# Altium integrated library SparkFun-Switches.IntLib: 54 symbols
Pins are listed as number, name and electrical type; pins without a type are passive.

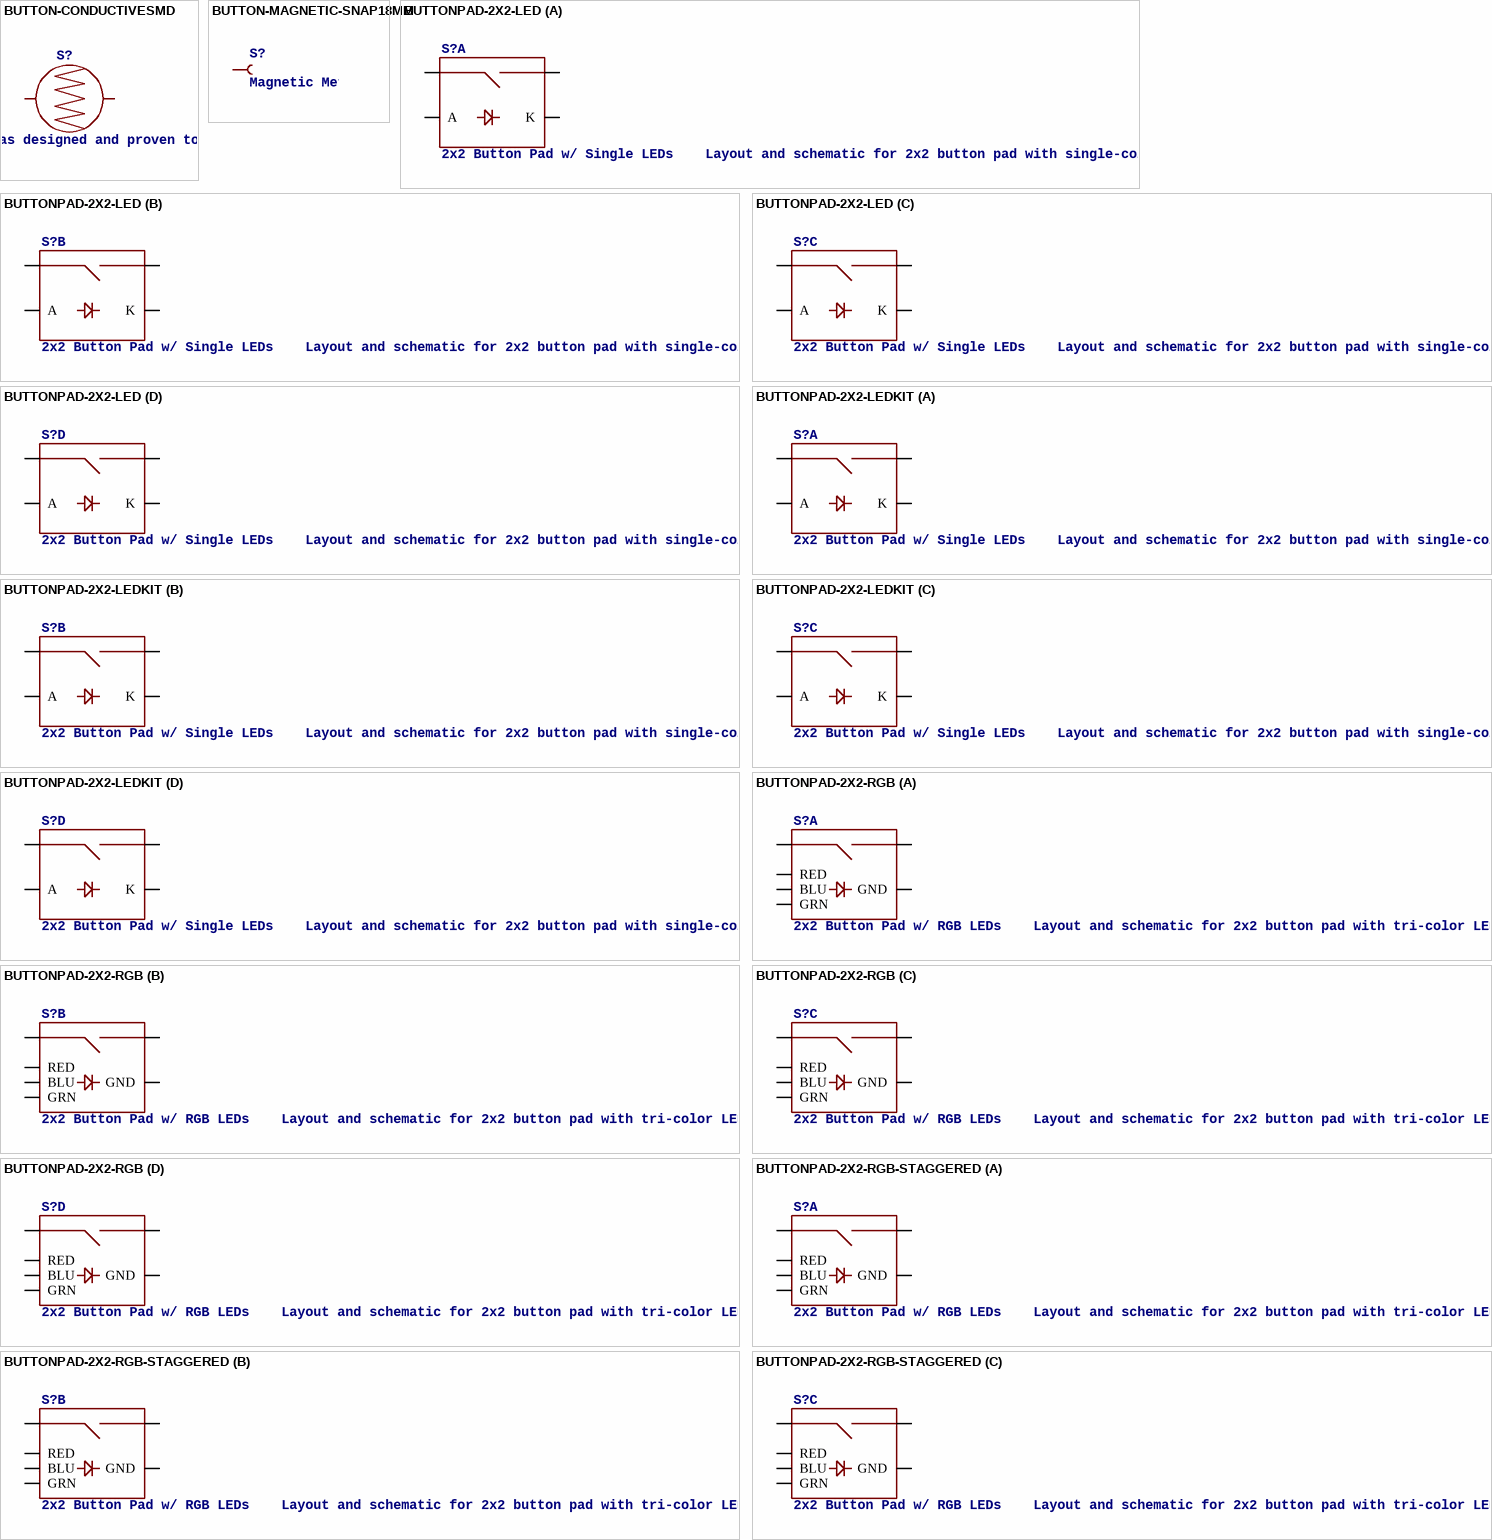
[diagram p0: symbols BUTTON-CONDUCTIVESMD to BUTTONPAD-2X2-RGB-STAGGERED]

## BUTTON-CONDUCTIVESMD
designator S?, comment Conductive Button    Used with rubber key pads on the Nordic Key FOB. This one was designed and proven to work with the PolyCase Key FOB enclosures. SparkFun Products  Nordic Fob (WRL-08602)
footprint BUTTON-CONDUCTIVE
pins: 1, 2

## BUTTON-MAGNETIC-SNAP18MM
designator S?, comment Magnetic Metal Snaps    18mm diameter snaps that couple together very strongly (must be pried apart), rotate freely on the axis, and are electrically conductive. Overall connection resistance is less than 200 miliOhm. Snaps will couple when closer than 10mm. SparkFun Products  Magnetic Snap 18mm (WRL-08682)
SF_SKU: DEV-08682
footprint BUTTON-18MM
pins: 1

## BUTTONPAD-2X2-LED
designator S?, comment 2x2 Button Pad w/ Single LEDs    Layout and schematic for 2x2 button pad with single-color LEDs under each button. For use with the Button Pad 2x2 - LED Compatible and Button Pad 2x2 Top Bezel.   Any single-color 5mm LED should be compatible. SparkFun Products  SparkFun Simon Says - Through-Hole Soldering Kit (KIT-10547)  Button Pad 2x2 - Breakout PCB (COM-09277)
PROD_ID: COMP-08481; SF_SKU: COM-07836
footprint BUTTONPAD-2X2-SINGLE-LED
part A pins: A1 A, K1 K, SIG1, SIG2
part B pins: A2 A, K2 K, SIG3 SIG1, SIG4 SIG2
part C pins: A3 A, K3 K, SIG5 SIG1, SIG6 SIG2
part D pins: A4 A, K4 K, SIG7 SIG1, SIG8 SIG2

## BUTTONPAD-2X2-LEDKIT
designator S?, comment 2x2 Button Pad w/ Single LEDs    Layout and schematic for 2x2 button pad with single-color LEDs under each button. For use with the Button Pad 2x2 - LED Compatible and Button Pad 2x2 Top Bezel.   Any single-color 5mm LED should be compatible. SparkFun Products  SparkFun Simon Says - Through-Hole Soldering Kit (KIT-10547)  Button Pad 2x2 - Breakout PCB (COM-09277)
PROD_ID: COMP-08481; SF_SKU: COM-07836
footprint BUTTONPAD-2X2-SINGLE-LED-KIT
part A pins: A1 A, K1 K, SIG1, SIG2
part B pins: A2 A, K2 K, SIG3 SIG1, SIG4 SIG2
part C pins: A3 A, K3 K, SIG5 SIG1, SIG6 SIG2
part D pins: A4 A, K4 K, SIG7 SIG1, SIG8 SIG2

## BUTTONPAD-2X2-RGB
designator S?, comment 2x2 Button Pad w/ RGB LEDs    Layout and schematic for 2x2 button pad with tri-color LEDs under each button. For use with the Button Pad 2x2 - LED Compatible and Button Pad 2x2 Top Bezel.   Any RGB 5mm LED should be compatible. SparkFun Products  SparkFun Simon Says - Through-Hole Soldering Kit (KIT-10547)  Button Pad 2x2 - Breakout PCB (COM-09277)
PROD_ID: COMP-08481; SF_SKU: COM-07836
footprint BUTTONPAD-2X2
part A pins: BLU1 BLU, GND1 GND, GRN1 GRN, RED1 RED, SIG1, SIG2
part B pins: BLU2 BLU, GND2 GND, GRN2 GRN, RED2 RED, SIG3 SIG1, SIG4 SIG2
part C pins: BLU3 BLU, GND3 GND, GRN3 GRN, RED3 RED, SIG5 SIG1, SIG6 SIG2
part D pins: BLU4 BLU, GND4 GND, GRN4 GRN, RED4 RED, SIG7 SIG1, SIG8 SIG2

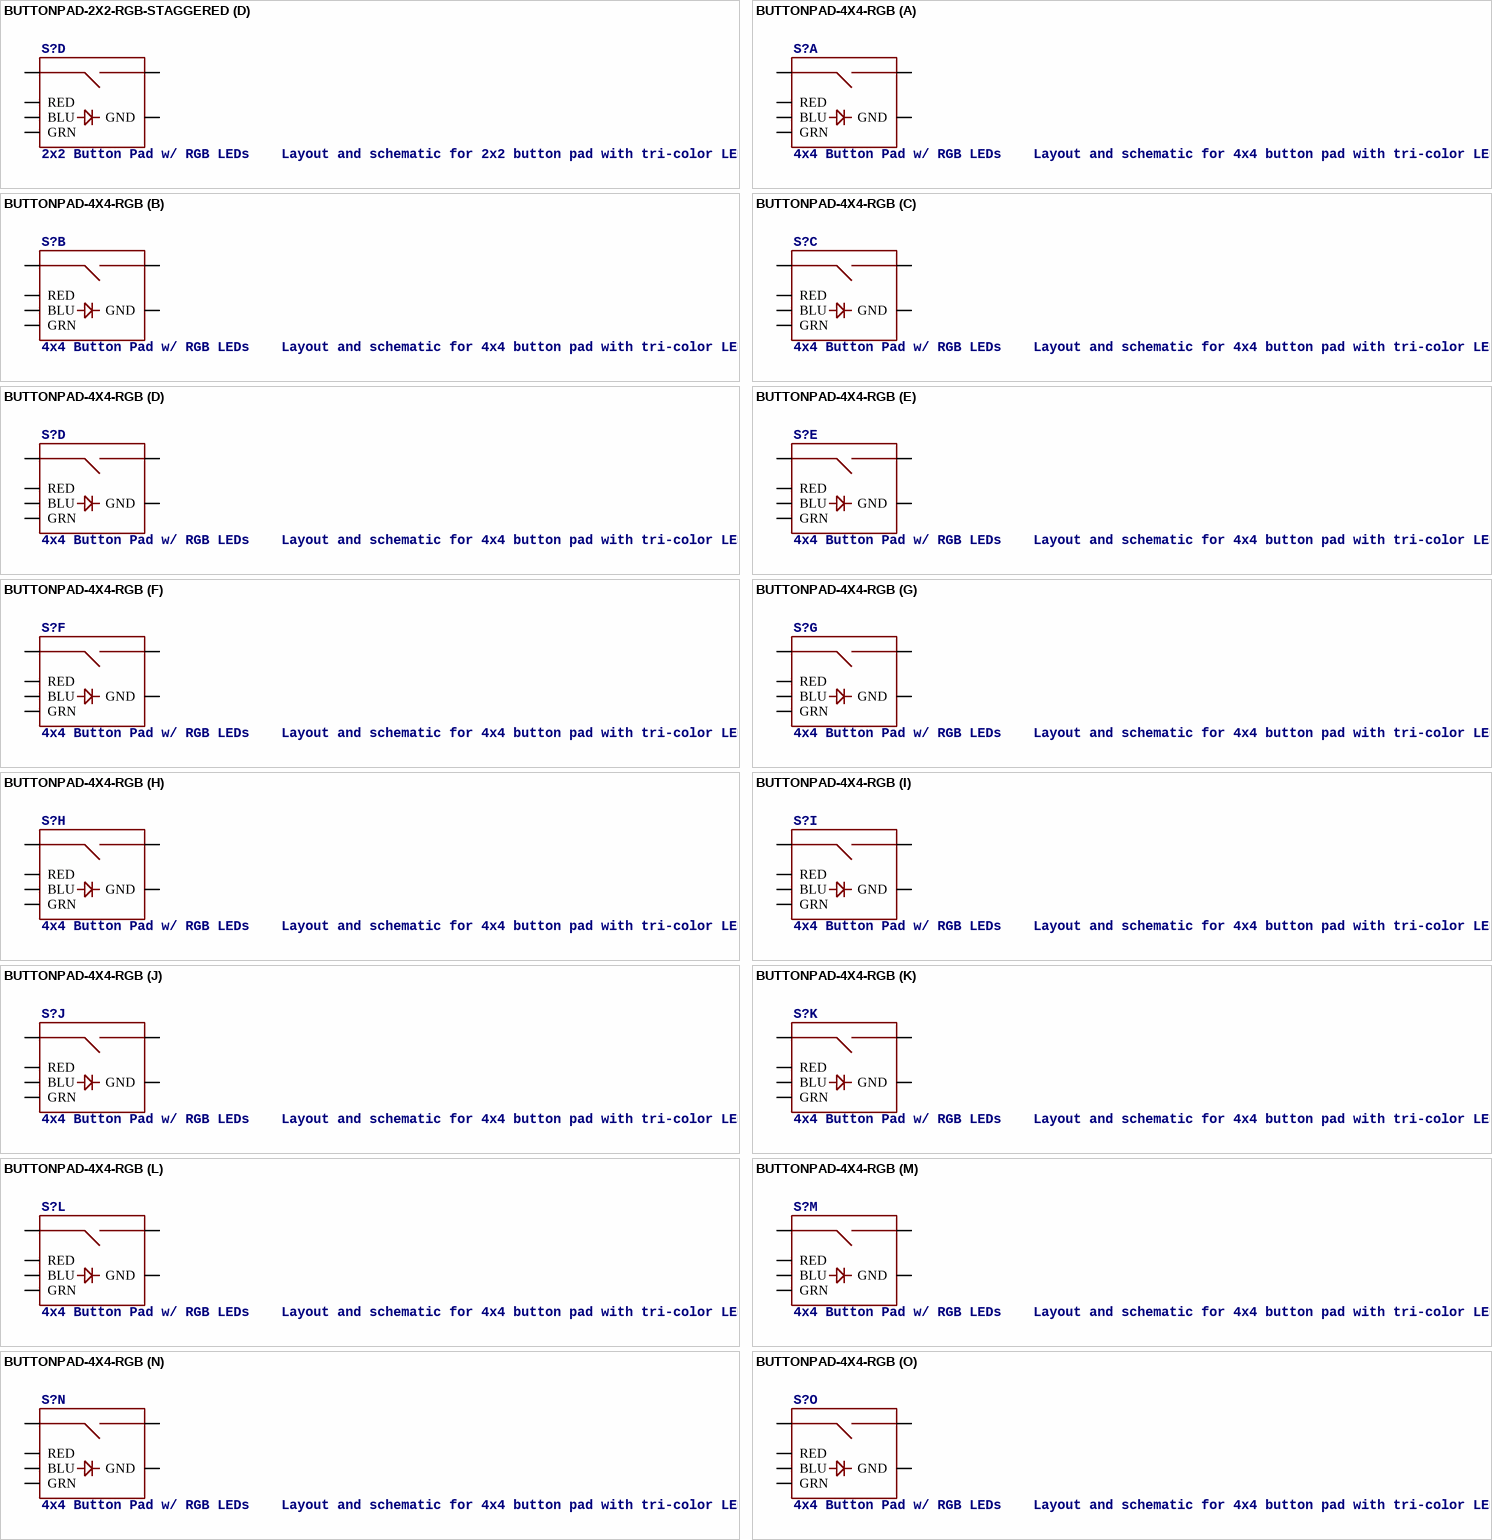
[diagram p1: symbols BUTTONPAD-2X2-RGB-STAGGERED to BUTTONPAD-4X4-RGB]

## BUTTONPAD-2X2-RGB-STAGGERED
designator S?, comment 2x2 Button Pad w/ RGB LEDs    Layout and schematic for 2x2 button pad with tri-color LEDs under each button. For use with the Button Pad 2x2 - LED Compatible and Button Pad 2x2 Top Bezel.   Any RGB 5mm LED should be compatible. SparkFun Products  SparkFun Simon Says - Through-Hole Soldering Kit (KIT-10547)  Button Pad 2x2 - Breakout PCB (COM-09277)
PROD_ID: COMP-08481; SF_SKU: COM-07836
footprint BUTTONPAD-2X2-STAGGERED
part A pins: BLU1 BLU, GND1 GND, GRN1 GRN, RED1 RED, SIG1, SIG2
part B pins: BLU2 BLU, GND2 GND, GRN2 GRN, RED2 RED, SIG3 SIG1, SIG4 SIG2
part C pins: BLU3 BLU, GND3 GND, GRN3 GRN, RED3 RED, SIG5 SIG1, SIG6 SIG2
part D pins: BLU4 BLU, GND4 GND, GRN4 GRN, RED4 RED, SIG7 SIG1, SIG8 SIG2

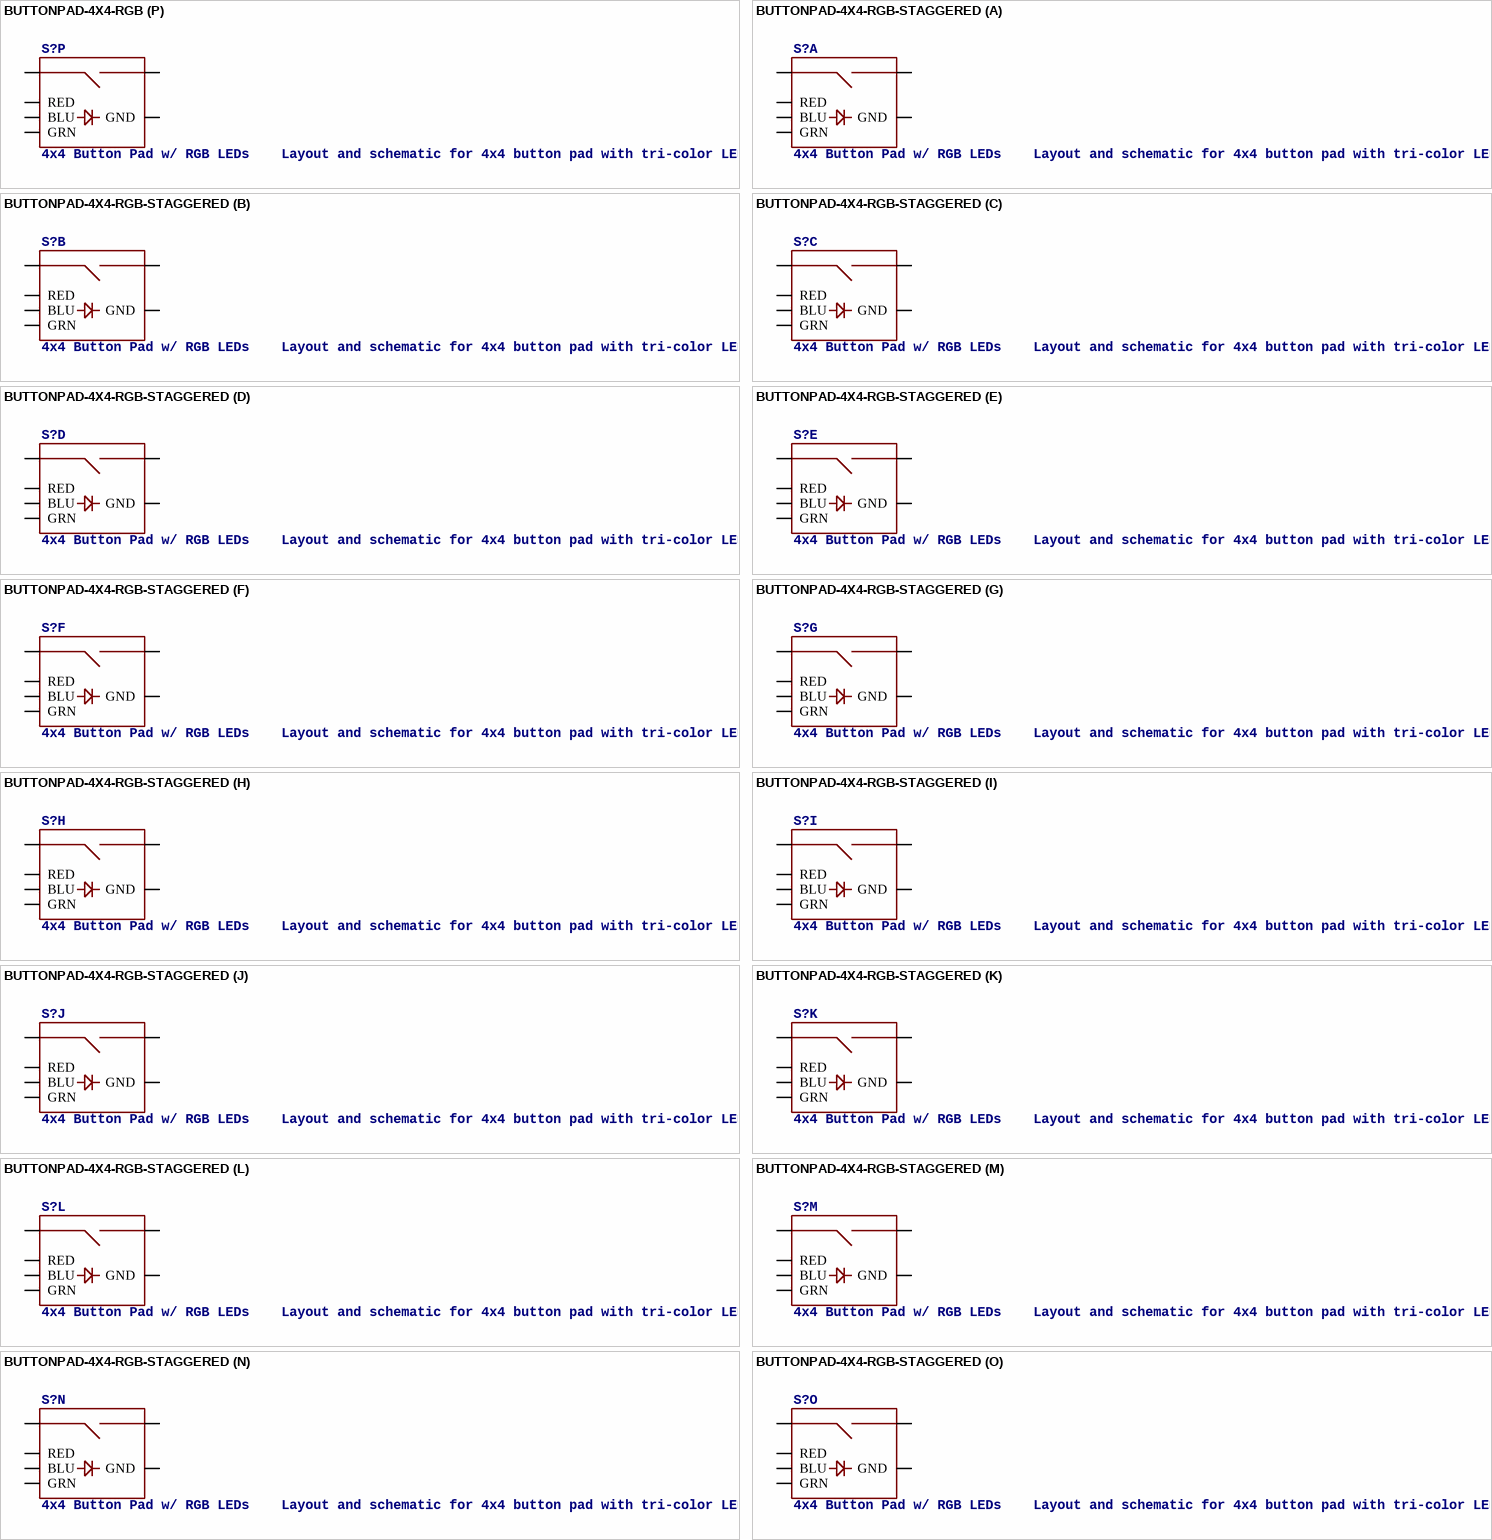
[diagram p2: symbols BUTTONPAD-4X4-RGB to BUTTONPAD-4X4-RGB-STAGGERED]

## BUTTONPAD-4X4-RGB
designator S?, comment 4x4 Button Pad w/ RGB LEDs    Layout and schematic for 4x4 button pad with tri-color LEDs under each button. For use with the 4x Button Pad 2x2 - LED Compatible and 4x Button Pad 2x2 Top Bezel.   Any RGB 5mm LED should be compatible. SparkFun Products  SparkFun Simon Says - Through-Hole Soldering Kit (KIT-10547)  Button Pad 2x2 - Breakout PCB (COM-09277)
PROD_ID: COMP-08481; SF_SKU: COM-07836
footprint BUTTONPAD-4X4
part A pins: BLU0 BLU, GND0 GND, GRN0 GRN, RED0 RED, SIG0 SIG1, SIG1 SIG2
part B pins: BLU1 BLU, GND1 GND, GRN1 GRN, RED1 RED, SIG2 SIG1, SIG3 SIG2
part C pins: BLU2 BLU, GND2 GND, GRN2 GRN, RED2 RED, SIG4 SIG1, SIG5 SIG2
part D pins: BLU3 BLU, GND3 GND, GRN3 GRN, RED3 RED, SIG6 SIG1, SIG7 SIG2
part E pins: BLU4 BLU, GND4 GND, GRN4 GRN, RED4 RED, SIG8 SIG1, SIG9 SIG2
part F pins: BLU5 BLU, GND5 GND, GRN6 GRN, RED5 RED, SIG10 SIG1, SIG11 SIG2
part G pins: BLU6 BLU, GND6 GND, GRN5 GRN, RED6 RED, SIG12 SIG1, SIG13 SIG2
part H pins: BLU7 BLU, GND7 GND, GRN7 GRN, RED7 RED, SIG14 SIG1, SIG15 SIG2
part I pins: BLU8 BLU, GND8 GND, GRN8 GRN, RED8 RED, SIG16 SIG1, SIG17 SIG2
part J pins: BLU9 BLU, GND9 GND, GRN9 GRN, RED9 RED, SIG18 SIG1, SIG19 SIG2
part K pins: BLU10 BLU, GND10 GND, GRN10 GRN, RED10 RED, SIG20 SIG1, SIG21 SIG2
part L pins: BLU11 BLU, GND11 GND, GRN11 GRN, RED11 RED, SIG22 SIG1, SIG23 SIG2
part M pins: BLU12 BLU, GND12 GND, GRN12 GRN, RED12 RED, SIG24 SIG1, SIG25 SIG2
part N pins: BLU13 BLU, GND13 GND, GRN13 GRN, RED13 RED, SIG26 SIG1, SIG27 SIG2
part O pins: BLU14 BLU, GND14 GND, GRN14 GRN, RED14 RED, SIG28 SIG1, SIG29 SIG2
part P pins: BLU15 BLU, GND15 GND, GRN15 GRN, RED15 RED, SIG30 SIG1, SIG31 SIG2

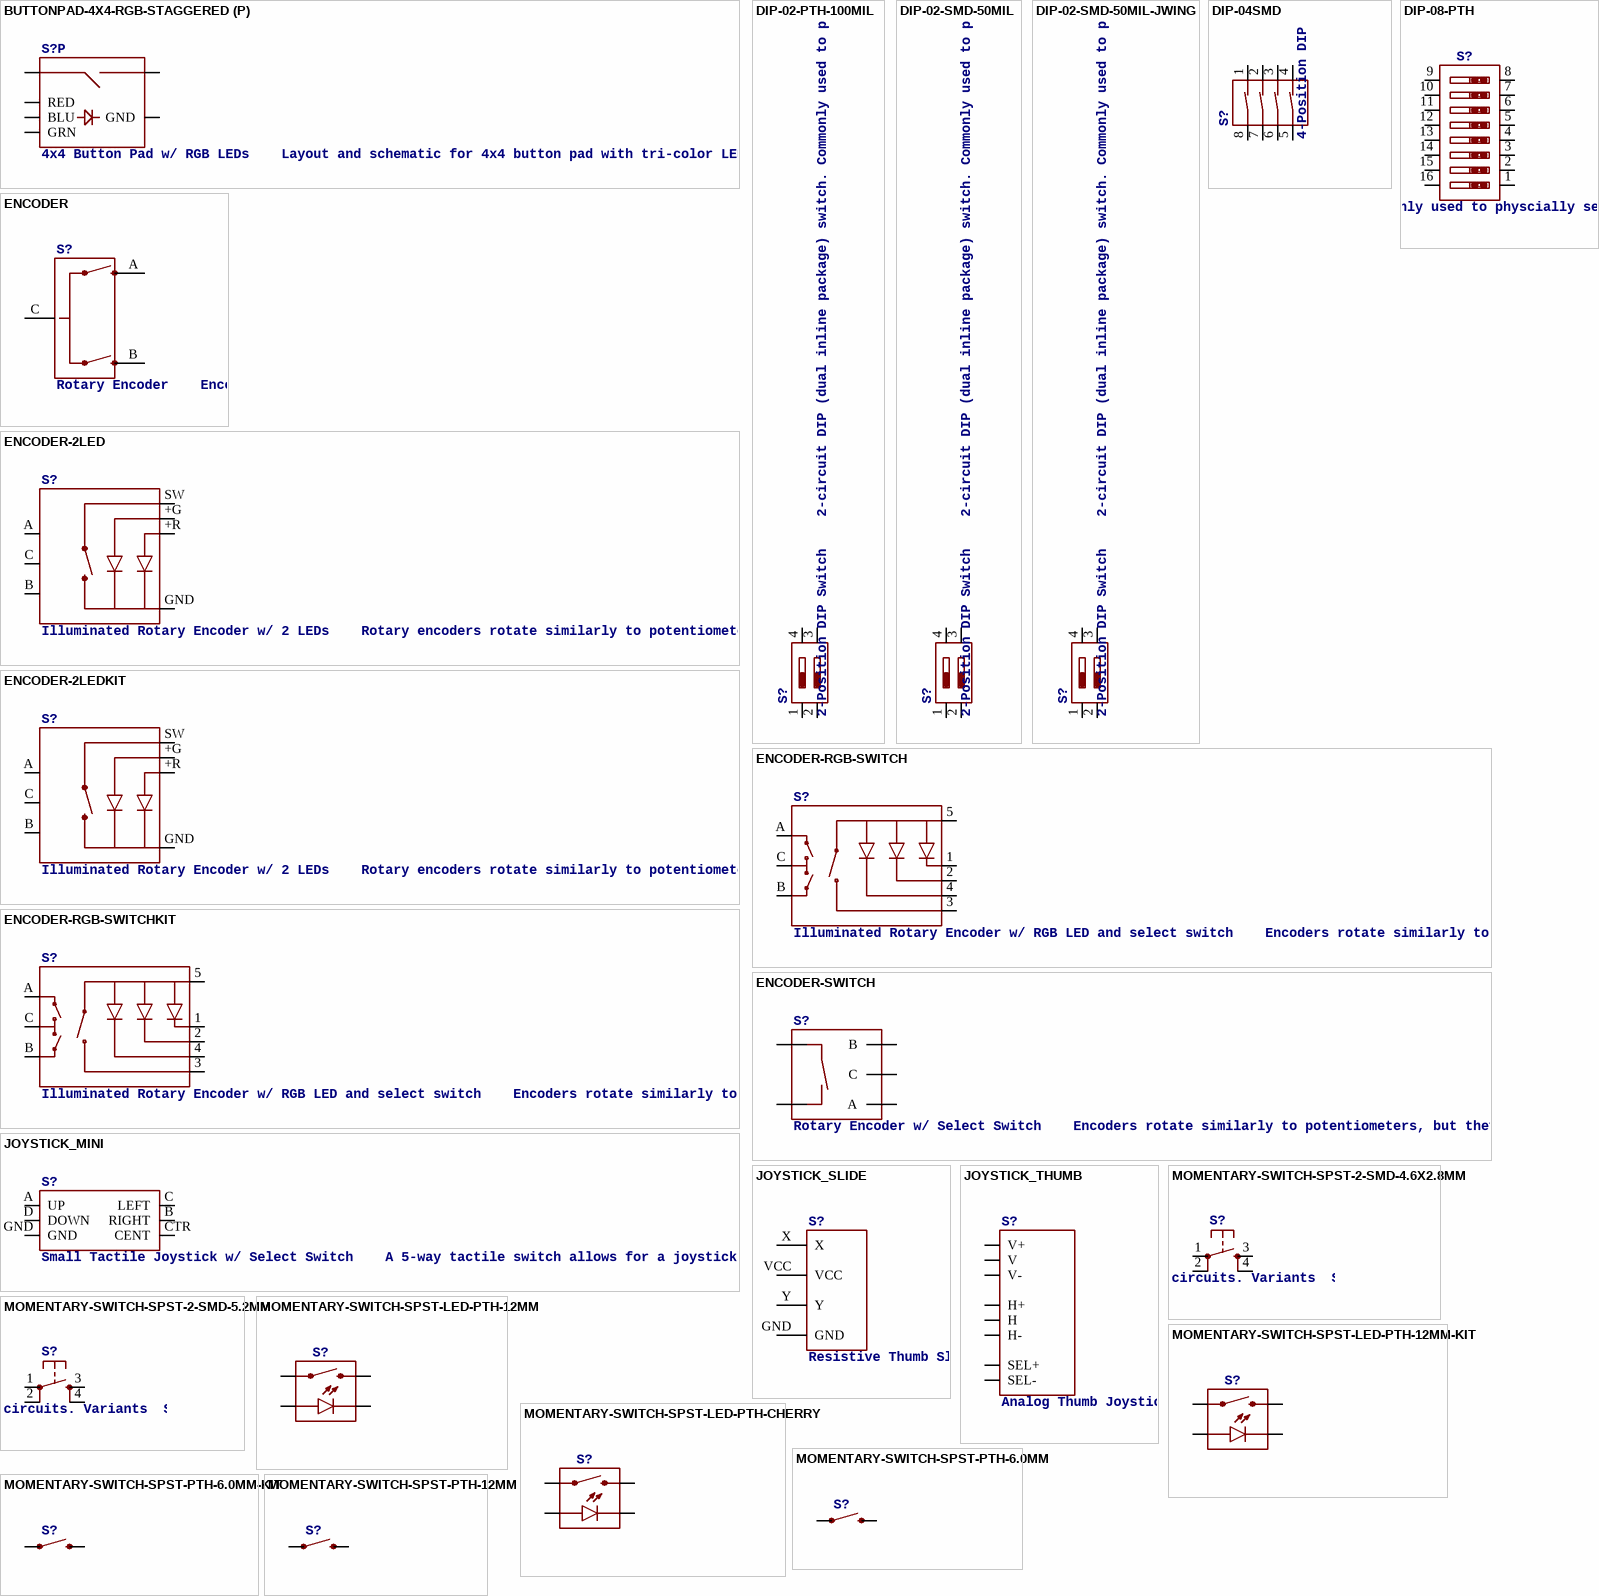
[diagram p3: symbols BUTTONPAD-4X4-RGB-STAGGERED to MOMENTARY-SWITCH-SPST-PTH-12MM]

## BUTTONPAD-4X4-RGB-STAGGERED
designator S?, comment 4x4 Button Pad w/ RGB LEDs    Layout and schematic for 4x4 button pad with tri-color LEDs under each button. For use with the 4x Button Pad 2x2 - LED Compatible and 4x Button Pad 2x2 Top Bezel.   Any RGB 5mm LED should be compatible. SparkFun Products  SparkFun Simon Says - Through-Hole Soldering Kit (KIT-10547)  Button Pad 2x2 - Breakout PCB (COM-09277)
PROD_ID: COMP-08481; SF_SKU: COM-07836
footprint BUTTONPAD-4X4-STAGGERED
part A pins: BLU0 BLU, GND0 GND, GRN0 GRN, RED0 RED, SIG0 SIG1, SIG1 SIG2
part B pins: BLU1 BLU, GND1 GND, GRN1 GRN, RED1 RED, SIG2 SIG1, SIG3 SIG2
part C pins: BLU2 BLU, GND2 GND, GRN2 GRN, RED2 RED, SIG4 SIG1, SIG5 SIG2
part D pins: BLU3 BLU, GND3 GND, GRN3 GRN, RED3 RED, SIG6 SIG1, SIG7 SIG2
part E pins: BLU4 BLU, GND4 GND, GRN4 GRN, RED4 RED, SIG8 SIG1, SIG9 SIG2
part F pins: BLU5 BLU, GND5 GND, GRN6 GRN, RED5 RED, SIG10 SIG1, SIG11 SIG2
part G pins: BLU6 BLU, GND6 GND, GRN5 GRN, RED6 RED, SIG12 SIG1, SIG13 SIG2
part H pins: BLU7 BLU, GND7 GND, GRN7 GRN, RED7 RED, SIG14 SIG1, SIG15 SIG2
part I pins: BLU8 BLU, GND8 GND, GRN8 GRN, RED8 RED, SIG16 SIG1, SIG17 SIG2
part J pins: BLU9 BLU, GND9 GND, GRN9 GRN, RED9 RED, SIG18 SIG1, SIG19 SIG2
part K pins: BLU10 BLU, GND10 GND, GRN10 GRN, RED10 RED, SIG20 SIG1, SIG21 SIG2
part L pins: BLU11 BLU, GND11 GND, GRN11 GRN, RED11 RED, SIG22 SIG1, SIG23 SIG2
part M pins: BLU12 BLU, GND12 GND, GRN12 GRN, RED12 RED, SIG24 SIG1, SIG25 SIG2
part N pins: BLU13 BLU, GND13 GND, GRN13 GRN, RED13 RED, SIG26 SIG1, SIG27 SIG2
part O pins: BLU14 BLU, GND14 GND, GRN14 GRN, RED14 RED, SIG28 SIG1, SIG29 SIG2
part P pins: BLU15 BLU, GND15 GND, GRN15 GRN, RED15 RED, SIG30 SIG1, SIG31 SIG2

## DIP-02-PTH-100MIL
designator S?, comment 2-Position DIP Switch    2-circuit DIP (dual inline package) switch. Commonly used to physcially set a circuit's behavior. Variants  PTH-100MIL - Through-hole, 0.1"-Pitch  Used on SparkFun Stepoko (ROB-13899)     SMD-50MIL-JWING - SMD (J-Wing Pads), 0.05"-Pitch  Prototype Part     SMD-50MIL - SMD, 0.05"-Pitch  Used on SparkFun Battery Babysitter (PRT-13777)
PROD_ID: SWCH-12532
footprint DIPSWITCH-02-209-2LPST
pins: 1 P$1, 2 P$2, 3 P$3, 4 P$4

## DIP-02-SMD-50MIL
designator S?, comment 2-Position DIP Switch    2-circuit DIP (dual inline package) switch. Commonly used to physcially set a circuit's behavior. Variants  PTH-100MIL - Through-hole, 0.1"-Pitch  Used on SparkFun Stepoko (ROB-13899)     SMD-50MIL-JWING - SMD (J-Wing Pads), 0.05"-Pitch  Prototype Part     SMD-50MIL - SMD, 0.05"-Pitch  Used on SparkFun Battery Babysitter (PRT-13777)
PROD_ID: SWCH-13215
footprint DIPSWITCH-02-50MIL
pins: 1 P$1, 2 P$2, 3 P$3, 4 P$4

## DIP-02-SMD-50MIL-JWING
designator S?, comment 2-Position DIP Switch    2-circuit DIP (dual inline package) switch. Commonly used to physcially set a circuit's behavior. Variants  PTH-100MIL - Through-hole, 0.1"-Pitch  Used on SparkFun Stepoko (ROB-13899)     SMD-50MIL-JWING - SMD (J-Wing Pads), 0.05"-Pitch  Prototype Part     SMD-50MIL - SMD, 0.05"-Pitch  Used on SparkFun Battery Babysitter (PRT-13777)
PROD_ID: SWCH-12372
footprint DIPSWITCH-02-CHS-02A
pins: 1 P$1, 2 P$2, 3 P$3, 4 P$4

## DIP-04SMD
designator S?, comment 4-Position DIP Switch    4-circuit DIP (dual inline package) switch. Commonly used to physcially set a circuit's behavior. SparkFun Products  Prototype Part
PROD_ID: SWCH-12418
footprint DIPSWITCH-04-SMD
pins: 1 1A, 2 2A, 3 3A, 4 4A, 5 4B, 6 3B, 7 2B, 8 1B

## DIP-08-PTH
designator S?, comment 8-Position DIP Switch    8-circuit DIP (dual inline package) switch. Commonly used to physcially set a circuit's behavior. SparkFun Products  DIP Switch - 8 Position (COM-08034)
PROD_ID: SWCH-12197; SF_SKU: COM-08034
footprint DIPSWITCH-08
pins: 1, 2, 3, 4, 5, 6, 7, 8, 9, 10, 11, 12, 13, 14, 15, 16

## ENCODER
designator S?, comment Rotary Encoder    Encoders rotate similarly to potentiometers, but they’re different from potentiometers in that an encoder has full rotation without limits. They output gray code so that you can tell how much and in which direction the encoder has been turned. SparkFun Products  Used on the https://www.sparkfun.com/products/11043 (COM-11043)
PROD_ID: RES-11299
footprint ENCODER-16MM-QUAD
pins: A, B, C

## ENCODER-2LED
designator S?, comment Illuminated Rotary Encoder w/ 2 LEDs    Rotary encoders rotate similarly to potentiometers, but they’re different from potentiometers in that an encoder has full rotation without limits. They output gray code so that you can tell how much and in which direction the encoder has been turned.   This encoder has a red/green LED built-in, which shines through the encoder shaft. SparkFun Products  Rotary Encoder - Illuminated (Red/Green) (COM-10596)  SparkFun Rotary Encoder Breakout - Illuminated (RG/RGB) (BOB-11722)
PROD_ID: COMP-11113; SF_SKU: COM-10596
footprint ENCODER_LED_2
pins: +G, +R, A, B, C, GND -, SW

## ENCODER-2LEDKIT
designator S?, comment Illuminated Rotary Encoder w/ 2 LEDs    Rotary encoders rotate similarly to potentiometers, but they’re different from potentiometers in that an encoder has full rotation without limits. They output gray code so that you can tell how much and in which direction the encoder has been turned.   This encoder has a red/green LED built-in, which shines through the encoder shaft. SparkFun Products  Rotary Encoder - Illuminated (Red/Green) (COM-10596)  SparkFun Rotary Encoder Breakout - Illuminated (RG/RGB) (BOB-11722)
PROD_ID: COMP-11113; SF_SKU: COM-10596
footprint ENCODER_LED_2_KIT
pins: +G, +R, A, B, C, GND -, SW

## ENCODER-RGB-SWITCH
designator S?, comment Illuminated Rotary Encoder w/ RGB LED and select switch    Encoders rotate similarly to potentiometers, but they’re different from potentiometers in that an encoder has full rotation without limits. They output gray code so that you can tell how much and in which direction the encoder has been turned.   This encoder includes an RGB LED and a push-down select switch.   Part #: Top Up EC12PLRGBSDVBF-D SparkFun Products  Rotary Encoder - Illuminated (RGB) (COM-10982)
PROD_ID: RES-10859; SF_SKU: COM-10982
footprint ENCODER_LED_3
pins: 1 -R, 2 -G, 3 SW, 4 -B, 5 +, A, B, C

## ENCODER-RGB-SWITCHKIT
designator S?, comment Illuminated Rotary Encoder w/ RGB LED and select switch    Encoders rotate similarly to potentiometers, but they’re different from potentiometers in that an encoder has full rotation without limits. They output gray code so that you can tell how much and in which direction the encoder has been turned.   This encoder includes an RGB LED and a push-down select switch.   Part #: Top Up EC12PLRGBSDVBF-D SparkFun Products  Rotary Encoder - Illuminated (RGB) (COM-10982)
PROD_ID: RES-10859; SF_SKU: COM-10982
footprint ENCODER_LED_3_KIT
pins: 1 -R, 2 -G, 3 SW, 4 -B, 5 +, A, B, C

## ENCODER-SWITCH
designator S?, comment Rotary Encoder w/ Select Switch    Encoders rotate similarly to potentiometers, but they’re different from potentiometers in that an encoder has full rotation without limits. They output gray code so that you can tell how much and in which direction the encoder has been turned.   This encoder includes a push-down select switch built into the shaft. SparkFun Products  Rotary Encoder (COM-09117)
SF_SKU: COM-09117
footprint ROTARY_ENC_PLAIN
pins: A, B, C, SW+, SW-

## JOYSTICK_MINI
designator S?, comment Small Tactile Joystick w/ Select Switch    A 5-way tactile switch allows for a joystick-like interface in a very small package.   Part #: 4UCON SF303GJ26 SparkFun Products  5-way Tactile Switch (COM-10063)  Used on SparkFun Block for Intel® Edison - OLED (DEV-13035)  Used on CAN-BUS Shield (DEV-13262)
PROD_ID: SWCH-09905; SF_SKU: COM-10063
footprint JOYSTICK_MINI
pins: A UP, B RIGHT, C LEFT, CTR CENT, D DOWN, GND

## JOYSTICK_SLIDE
designator S?, comment Resistive Thumb Slide Joystick    This is a resistive analog joystick, very similar to those found on the PSP1000. These compact joysticks are different in that they have a very interesting ‘slide’ feeling. SparkFun Products  Thumb Slide Joystick (COM-09426)
SF_SKU: COM-09426
footprint JOYSTICK-PSP1000
pins: GND, VCC, X, Y

## JOYSTICK_THUMB
designator S?, comment Analog Thumb Joystick    This is a joystick very similar to the ‘analog’ joysticks on PS2 (PlayStation 2) controllers. Directional movements are simply two potentiometers - one for each axis. Pots are ~10k each. This joystick also has a select button that is actuated when the joystick is pressed down. SparkFun Products  Thumb Joystick (COM-09032)  SparkFun Thumb Joystick Breakout (BOB-09110)  SparkFun Joystick Shield Kit (DEV-09760)
PROD_ID: COMP-09744; SF_SKU: COM-09032
footprint JOYSTICK
pins: B1A SEL+, B2A SEL-, H1 H+, H2 H, H3 H-, V1 V+, V2 V, V3 V-

## MOMENTARY-SWITCH-SPST-2-SMD-4.6X2.8MM
designator S?, comment Momentary Switch (Pushbutton) - SPST - Two Circuits    Normally-open (NO) SPST momentary switches (buttons, pushbuttons). Schematic symbol includes two switch circuits. Variants  SMD-4.6MMX2.8MM -  4.60mm x 2.80mm Tactile Momentary Button Switch  - Used on SparkFun SAMD21 Mini Breakout  SMD-5.2MM - Mini Pushbutton Switch - SMD - Used on Arduino Pro Mini
PROD_ID: SWCH-13065
footprint TACTILE_SWITCH_SMD_4.6X2.8MM
pins: 1, 2, 3, 4

## MOMENTARY-SWITCH-SPST-2-SMD-5.2MM
designator S?, comment Momentary Switch (Pushbutton) - SPST - Two Circuits    Normally-open (NO) SPST momentary switches (buttons, pushbuttons). Schematic symbol includes two switch circuits. Variants  SMD-4.6MMX2.8MM -  4.60mm x 2.80mm Tactile Momentary Button Switch  - Used on SparkFun SAMD21 Mini Breakout  SMD-5.2MM - Mini Pushbutton Switch - SMD - Used on Arduino Pro Mini
PROD_ID: SWCH-08247; SF_SKU: COM-08720
footprint TACTILE_SWITCH_SMD_5.2MM
pins: 1, 2, 3, 4

## MOMENTARY-SWITCH-SPST-LED-PTH-12MM
designator S?, comment Momentary Switch (Pushbutton) - SPST - w/ LED    Normally-open (NO) SPST momentary switches (buttons, pushbuttons), with a built-in LED. Variants  PTH-CHERRY - Cherry MX Switch    Cherry MX Keyswitches are top-of-the-line mechanical keyboard switches. They’re satisfyingly “clicky”, reliable up to tens-of-millions of key presses, and a standard in gaming and programming keyboards across the globe. This ‘blue’ version Cherry MX Switch is favored by most due to its secondary internal actuator making it less likely to “double-tap.” If you are looking for a noticeably audible and high-quality key switch, this is the perfect option for you! Cherry MX Switch (COM-13834)  Cherry MX Switch Breakout (BOB-13773)     PTH-12MM and PTH-12MM-KIT - 12mm Illuminated LED    KIT variant is for soldering kits. There is no tStop (covering up the top side of the pads with mask). This helps the beginner see which side they should be soldering too. LED Tactile Button Breakout (BOB-10467)  LED Tactile Button - Red (COM-10442)  LED Tactile Button - Blue (COM-10443)  LED Tactile Button - Green (COM-10440)  LED Tactile Button - Orange (COM-10441)  LED Tactile Button - White (COM-10439)
PROD_ID: SWCH-11758; SF_SKU: COM-10442
footprint TACTILE_SWITCH_LED_PTH_12MM
pins: 2, 4 1, A, C

## MOMENTARY-SWITCH-SPST-LED-PTH-12MM-KIT
designator S?, comment Momentary Switch (Pushbutton) - SPST - w/ LED    Normally-open (NO) SPST momentary switches (buttons, pushbuttons), with a built-in LED. Variants  PTH-CHERRY - Cherry MX Switch    Cherry MX Keyswitches are top-of-the-line mechanical keyboard switches. They’re satisfyingly “clicky”, reliable up to tens-of-millions of key presses, and a standard in gaming and programming keyboards across the globe. This ‘blue’ version Cherry MX Switch is favored by most due to its secondary internal actuator making it less likely to “double-tap.” If you are looking for a noticeably audible and high-quality key switch, this is the perfect option for you! Cherry MX Switch (COM-13834)  Cherry MX Switch Breakout (BOB-13773)     PTH-12MM and PTH-12MM-KIT - 12mm Illuminated LED    KIT variant is for soldering kits. There is no tStop (covering up the top side of the pads with mask). This helps the beginner see which side they should be soldering too. LED Tactile Button Breakout (BOB-10467)  LED Tactile Button - Red (COM-10442)  LED Tactile Button - Blue (COM-10443)  LED Tactile Button - Green (COM-10440)  LED Tactile Button - Orange (COM-10441)  LED Tactile Button - White (COM-10439)
PROD_ID: SWCH-11758; SF_SKU: COM-10442
footprint TACTILE_SWITCH_LED_PTH_12MM_KIT
pins: 2, 4 1, A, C

## MOMENTARY-SWITCH-SPST-LED-PTH-CHERRY
designator S?, comment Momentary Switch (Pushbutton) - SPST - w/ LED    Normally-open (NO) SPST momentary switches (buttons, pushbuttons), with a built-in LED. Variants  PTH-CHERRY - Cherry MX Switch    Cherry MX Keyswitches are top-of-the-line mechanical keyboard switches. They’re satisfyingly “clicky”, reliable up to tens-of-millions of key presses, and a standard in gaming and programming keyboards across the globe. This ‘blue’ version Cherry MX Switch is favored by most due to its secondary internal actuator making it less likely to “double-tap.” If you are looking for a noticeably audible and high-quality key switch, this is the perfect option for you! Cherry MX Switch (COM-13834)  Cherry MX Switch Breakout (BOB-13773)     PTH-12MM and PTH-12MM-KIT - 12mm Illuminated LED    KIT variant is for soldering kits. There is no tStop (covering up the top side of the pads with mask). This helps the beginner see which side they should be soldering too. LED Tactile Button Breakout (BOB-10467)  LED Tactile Button - Red (COM-10442)  LED Tactile Button - Blue (COM-10443)  LED Tactile Button - Green (COM-10440)  LED Tactile Button - Orange (COM-10441)  LED Tactile Button - White (COM-10439)
SF_ID: COM-13834
footprint CHERRY-MX-LED
pins: A, K C, S1 1, S2 2

## MOMENTARY-SWITCH-SPST-PTH-6.0MM
designator S?, comment Momentary Switch (Pushbutton) - SPST    Normally-open (NO) SPST momentary switches (buttons, pushbuttons). Variants  PTH-12MM - 12mm square, through-hole  Momentary Pushbutton Switch - 12mm Square (COM-09190)     PTH-6.0MM, PTH-6.0MM-KIT - 6.0mm square, through-hole  Mini Pushbutton Switch (COM-00097)  KIT package intended for soldering kit's - only one side of pads' copper is exposed.     PTH-RIGHT-ANGLE-KIT - Right-angle, through-hole  Right Angle Tactile Button - Used on SparkFun BigTime Watch Kit     SMD-12MM - 12mm square, surface-mount  Tactile Button - SMD (12mm) (COM-12993)  Used on SparkFun PicoBoard     SMD-4.5MM - 4.5mm Square Trackball Switch  Used on SparkFun Blackberry Trackballer Breakout     SMD-4.6MMX2.8MM -  4.60mm x 2.80mm, surface mount  Used on SparkFun SAMD21 Mini Breakout     SMD-5.2MM, SMD-5.2-REDUNDANT - 5.2mm square, surface-mount  Mini Pushbutton Switch - SMD (COM-08720)  Used on Arduino Pro Mini  REDUNDANT package connects both switch circuits together     SMD-6.0X3.5MM - 6.0 x 3.5mm, surface mount  Momentary Reset Switch SMD (COM-08229)     SMD-6.2MM-TALL - 6.2mm square, surface mount  Tactile Button - SMD (6mm)  Used on SparkFun Digital Sandbox     SMD-RIGHT-ANGLE - Right-angle, surface mount  Used on SparkFun Block for Intel® Edison - Arduino
PROD_ID: SWCH-08441; SF_SKU: COM-00097
footprint TACTILE_SWITCH_PTH_6.0MM
pins: 1, 3 2

## MOMENTARY-SWITCH-SPST-PTH-6.0MM-KIT
designator S?, comment Momentary Switch (Pushbutton) - SPST    Normally-open (NO) SPST momentary switches (buttons, pushbuttons). Variants  PTH-12MM - 12mm square, through-hole  Momentary Pushbutton Switch - 12mm Square (COM-09190)     PTH-6.0MM, PTH-6.0MM-KIT - 6.0mm square, through-hole  Mini Pushbutton Switch (COM-00097)  KIT package intended for soldering kit's - only one side of pads' copper is exposed.     PTH-RIGHT-ANGLE-KIT - Right-angle, through-hole  Right Angle Tactile Button - Used on SparkFun BigTime Watch Kit     SMD-12MM - 12mm square, surface-mount  Tactile Button - SMD (12mm) (COM-12993)  Used on SparkFun PicoBoard     SMD-4.5MM - 4.5mm Square Trackball Switch  Used on SparkFun Blackberry Trackballer Breakout     SMD-4.6MMX2.8MM -  4.60mm x 2.80mm, surface mount  Used on SparkFun SAMD21 Mini Breakout     SMD-5.2MM, SMD-5.2-REDUNDANT - 5.2mm square, surface-mount  Mini Pushbutton Switch - SMD (COM-08720)  Used on Arduino Pro Mini  REDUNDANT package connects both switch circuits together     SMD-6.0X3.5MM - 6.0 x 3.5mm, surface mount  Momentary Reset Switch SMD (COM-08229)     SMD-6.2MM-TALL - 6.2mm square, surface mount  Tactile Button - SMD (6mm)  Used on SparkFun Digital Sandbox     SMD-RIGHT-ANGLE - Right-angle, surface mount  Used on SparkFun Block for Intel® Edison - Arduino
PROD_ID: SWCH-08441; SF_SKU: COM-00097
footprint TACTILE_SWITCH_PTH_6.0MM_KIT
pins: 1, 3 2

## MOMENTARY-SWITCH-SPST-PTH-12MM
designator S?, comment Momentary Switch (Pushbutton) - SPST    Normally-open (NO) SPST momentary switches (buttons, pushbuttons). Variants  PTH-12MM - 12mm square, through-hole  Momentary Pushbutton Switch - 12mm Square (COM-09190)     PTH-6.0MM, PTH-6.0MM-KIT - 6.0mm square, through-hole  Mini Pushbutton Switch (COM-00097)  KIT package intended for soldering kit's - only one side of pads' copper is exposed.     PTH-RIGHT-ANGLE-KIT - Right-angle, through-hole  Right Angle Tactile Button - Used on SparkFun BigTime Watch Kit     SMD-12MM - 12mm square, surface-mount  Tactile Button - SMD (12mm) (COM-12993)  Used on SparkFun PicoBoard     SMD-4.5MM - 4.5mm Square Trackball Switch  Used on SparkFun Blackberry Trackballer Breakout     SMD-4.6MMX2.8MM -  4.60mm x 2.80mm, surface mount  Used on SparkFun SAMD21 Mini Breakout     SMD-5.2MM, SMD-5.2-REDUNDANT - 5.2mm square, surface-mount  Mini Pushbutton Switch - SMD (COM-08720)  Used on Arduino Pro Mini  REDUNDANT package connects both switch circuits together     SMD-6.0X3.5MM - 6.0 x 3.5mm, surface mount  Momentary Reset Switch SMD (COM-08229)     SMD-6.2MM-TALL - 6.2mm square, surface mount  Tactile Button - SMD (6mm)  Used on SparkFun Digital Sandbox     SMD-RIGHT-ANGLE - Right-angle, surface mount  Used on SparkFun Block for Intel® Edison - Arduino
PROD_ID: SWCH-09185; SF_SKU: COM-09190
footprint TACTILE_SWITCH_PTH_12MM
pins: 1, 3 2

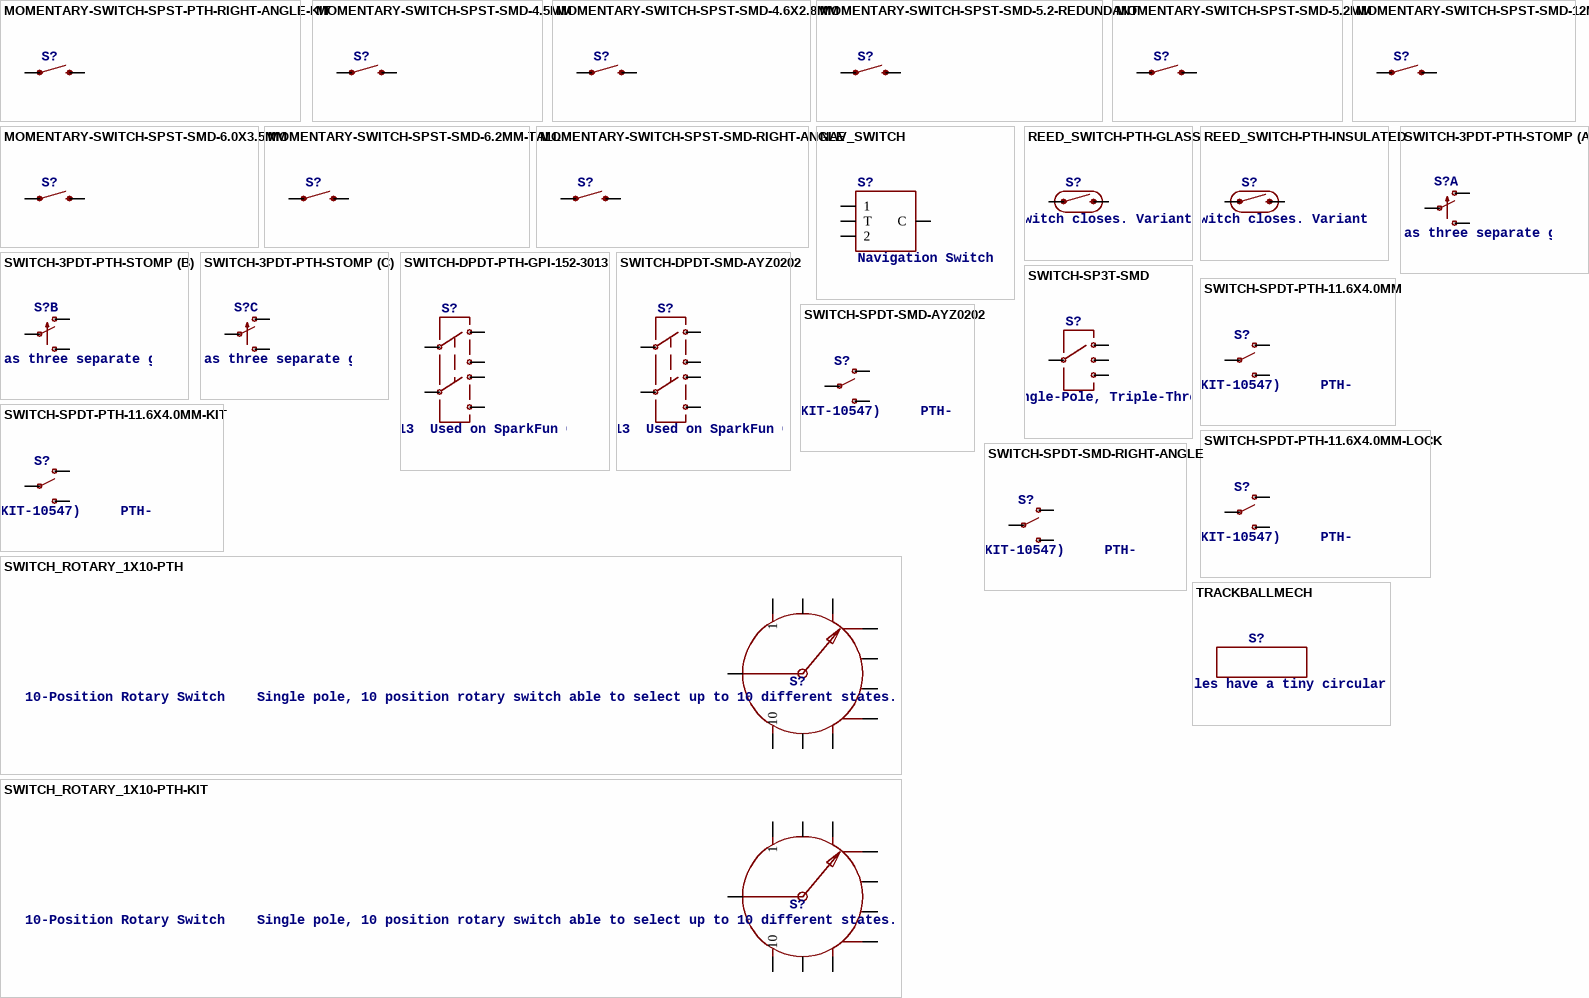
[diagram p4: symbols MOMENTARY-SWITCH-SPST-PTH-RIGHT-ANGLE-KIT to TRACKBALLMECH]

## MOMENTARY-SWITCH-SPST-PTH-RIGHT-ANGLE-KIT
designator S?, comment Momentary Switch (Pushbutton) - SPST    Normally-open (NO) SPST momentary switches (buttons, pushbuttons). Variants  PTH-12MM - 12mm square, through-hole  Momentary Pushbutton Switch - 12mm Square (COM-09190)     PTH-6.0MM, PTH-6.0MM-KIT - 6.0mm square, through-hole  Mini Pushbutton Switch (COM-00097)  KIT package intended for soldering kit's - only one side of pads' copper is exposed.     PTH-RIGHT-ANGLE-KIT - Right-angle, through-hole  Right Angle Tactile Button - Used on SparkFun BigTime Watch Kit     SMD-12MM - 12mm square, surface-mount  Tactile Button - SMD (12mm) (COM-12993)  Used on SparkFun PicoBoard     SMD-4.5MM - 4.5mm Square Trackball Switch  Used on SparkFun Blackberry Trackballer Breakout     SMD-4.6MMX2.8MM -  4.60mm x 2.80mm, surface mount  Used on SparkFun SAMD21 Mini Breakout     SMD-5.2MM, SMD-5.2-REDUNDANT - 5.2mm square, surface-mount  Mini Pushbutton Switch - SMD (COM-08720)  Used on Arduino Pro Mini  REDUNDANT package connects both switch circuits together     SMD-6.0X3.5MM - 6.0 x 3.5mm, surface mount  Momentary Reset Switch SMD (COM-08229)     SMD-6.2MM-TALL - 6.2mm square, surface mount  Tactile Button - SMD (6mm)  Used on SparkFun Digital Sandbox     SMD-RIGHT-ANGLE - Right-angle, surface mount  Used on SparkFun Block for Intel® Edison - Arduino
PROD_ID: CONN-10672; SF_SKU: COM-10791
footprint TACTILE_SWITCH_PTH_RIGHT_ANGLE_KIT
pins: 1, 2

## MOMENTARY-SWITCH-SPST-SMD-4.5MM
designator S?, comment Momentary Switch (Pushbutton) - SPST    Normally-open (NO) SPST momentary switches (buttons, pushbuttons). Variants  PTH-12MM - 12mm square, through-hole  Momentary Pushbutton Switch - 12mm Square (COM-09190)     PTH-6.0MM, PTH-6.0MM-KIT - 6.0mm square, through-hole  Mini Pushbutton Switch (COM-00097)  KIT package intended for soldering kit's - only one side of pads' copper is exposed.     PTH-RIGHT-ANGLE-KIT - Right-angle, through-hole  Right Angle Tactile Button - Used on SparkFun BigTime Watch Kit     SMD-12MM - 12mm square, surface-mount  Tactile Button - SMD (12mm) (COM-12993)  Used on SparkFun PicoBoard     SMD-4.5MM - 4.5mm Square Trackball Switch  Used on SparkFun Blackberry Trackballer Breakout     SMD-4.6MMX2.8MM -  4.60mm x 2.80mm, surface mount  Used on SparkFun SAMD21 Mini Breakout     SMD-5.2MM, SMD-5.2-REDUNDANT - 5.2mm square, surface-mount  Mini Pushbutton Switch - SMD (COM-08720)  Used on Arduino Pro Mini  REDUNDANT package connects both switch circuits together     SMD-6.0X3.5MM - 6.0 x 3.5mm, surface mount  Momentary Reset Switch SMD (COM-08229)     SMD-6.2MM-TALL - 6.2mm square, surface mount  Tactile Button - SMD (6mm)  Used on SparkFun Digital Sandbox     SMD-RIGHT-ANGLE - Right-angle, surface mount  Used on SparkFun Block for Intel® Edison - Arduino
PROD_ID: SWCH-09213
footprint TACTILE_SWITCH_SMD_4.5MM
pins: 1 4 2, 2 3 1

## MOMENTARY-SWITCH-SPST-SMD-4.6X2.8MM
designator S?, comment Momentary Switch (Pushbutton) - SPST    Normally-open (NO) SPST momentary switches (buttons, pushbuttons). Variants  PTH-12MM - 12mm square, through-hole  Momentary Pushbutton Switch - 12mm Square (COM-09190)     PTH-6.0MM, PTH-6.0MM-KIT - 6.0mm square, through-hole  Mini Pushbutton Switch (COM-00097)  KIT package intended for soldering kit's - only one side of pads' copper is exposed.     PTH-RIGHT-ANGLE-KIT - Right-angle, through-hole  Right Angle Tactile Button - Used on SparkFun BigTime Watch Kit     SMD-12MM - 12mm square, surface-mount  Tactile Button - SMD (12mm) (COM-12993)  Used on SparkFun PicoBoard     SMD-4.5MM - 4.5mm Square Trackball Switch  Used on SparkFun Blackberry Trackballer Breakout     SMD-4.6MMX2.8MM -  4.60mm x 2.80mm, surface mount  Used on SparkFun SAMD21 Mini Breakout     SMD-5.2MM, SMD-5.2-REDUNDANT - 5.2mm square, surface-mount  Mini Pushbutton Switch - SMD (COM-08720)  Used on Arduino Pro Mini  REDUNDANT package connects both switch circuits together     SMD-6.0X3.5MM - 6.0 x 3.5mm, surface mount  Momentary Reset Switch SMD (COM-08229)     SMD-6.2MM-TALL - 6.2mm square, surface mount  Tactile Button - SMD (6mm)  Used on SparkFun Digital Sandbox     SMD-RIGHT-ANGLE - Right-angle, surface mount  Used on SparkFun Block for Intel® Edison - Arduino
PROD_ID: SWCH-13065
footprint TACTILE_SWITCH_SMD_4.6X2.8MM
pins: 1 2 1, 3 4 2

## MOMENTARY-SWITCH-SPST-SMD-5.2-REDUNDANT
designator S?, comment Momentary Switch (Pushbutton) - SPST    Normally-open (NO) SPST momentary switches (buttons, pushbuttons). Variants  PTH-12MM - 12mm square, through-hole  Momentary Pushbutton Switch - 12mm Square (COM-09190)     PTH-6.0MM, PTH-6.0MM-KIT - 6.0mm square, through-hole  Mini Pushbutton Switch (COM-00097)  KIT package intended for soldering kit's - only one side of pads' copper is exposed.     PTH-RIGHT-ANGLE-KIT - Right-angle, through-hole  Right Angle Tactile Button - Used on SparkFun BigTime Watch Kit     SMD-12MM - 12mm square, surface-mount  Tactile Button - SMD (12mm) (COM-12993)  Used on SparkFun PicoBoard     SMD-4.5MM - 4.5mm Square Trackball Switch  Used on SparkFun Blackberry Trackballer Breakout     SMD-4.6MMX2.8MM -  4.60mm x 2.80mm, surface mount  Used on SparkFun SAMD21 Mini Breakout     SMD-5.2MM, SMD-5.2-REDUNDANT - 5.2mm square, surface-mount  Mini Pushbutton Switch - SMD (COM-08720)  Used on Arduino Pro Mini  REDUNDANT package connects both switch circuits together     SMD-6.0X3.5MM - 6.0 x 3.5mm, surface mount  Momentary Reset Switch SMD (COM-08229)     SMD-6.2MM-TALL - 6.2mm square, surface mount  Tactile Button - SMD (6mm)  Used on SparkFun Digital Sandbox     SMD-RIGHT-ANGLE - Right-angle, surface mount  Used on SparkFun Block for Intel® Edison - Arduino
PROD_ID: SWCH-08247; SF_SKU: COM-08720
footprint TACTILE_SWITCH_SMD_5.2MM
pins: 1 2 1, 3 4 2

## MOMENTARY-SWITCH-SPST-SMD-5.2MM
designator S?, comment Momentary Switch (Pushbutton) - SPST    Normally-open (NO) SPST momentary switches (buttons, pushbuttons). Variants  PTH-12MM - 12mm square, through-hole  Momentary Pushbutton Switch - 12mm Square (COM-09190)     PTH-6.0MM, PTH-6.0MM-KIT - 6.0mm square, through-hole  Mini Pushbutton Switch (COM-00097)  KIT package intended for soldering kit's - only one side of pads' copper is exposed.     PTH-RIGHT-ANGLE-KIT - Right-angle, through-hole  Right Angle Tactile Button - Used on SparkFun BigTime Watch Kit     SMD-12MM - 12mm square, surface-mount  Tactile Button - SMD (12mm) (COM-12993)  Used on SparkFun PicoBoard     SMD-4.5MM - 4.5mm Square Trackball Switch  Used on SparkFun Blackberry Trackballer Breakout     SMD-4.6MMX2.8MM -  4.60mm x 2.80mm, surface mount  Used on SparkFun SAMD21 Mini Breakout     SMD-5.2MM, SMD-5.2-REDUNDANT - 5.2mm square, surface-mount  Mini Pushbutton Switch - SMD (COM-08720)  Used on Arduino Pro Mini  REDUNDANT package connects both switch circuits together     SMD-6.0X3.5MM - 6.0 x 3.5mm, surface mount  Momentary Reset Switch SMD (COM-08229)     SMD-6.2MM-TALL - 6.2mm square, surface mount  Tactile Button - SMD (6mm)  Used on SparkFun Digital Sandbox     SMD-RIGHT-ANGLE - Right-angle, surface mount  Used on SparkFun Block for Intel® Edison - Arduino
PROD_ID: SWCH-08247; SF_SKU: COM-08720
footprint TACTILE_SWITCH_SMD_5.2MM
pins: 1, 3 2

## MOMENTARY-SWITCH-SPST-SMD-6.0X3.5MM
designator S?, comment Momentary Switch (Pushbutton) - SPST    Normally-open (NO) SPST momentary switches (buttons, pushbuttons). Variants  PTH-12MM - 12mm square, through-hole  Momentary Pushbutton Switch - 12mm Square (COM-09190)     PTH-6.0MM, PTH-6.0MM-KIT - 6.0mm square, through-hole  Mini Pushbutton Switch (COM-00097)  KIT package intended for soldering kit's - only one side of pads' copper is exposed.     PTH-RIGHT-ANGLE-KIT - Right-angle, through-hole  Right Angle Tactile Button - Used on SparkFun BigTime Watch Kit     SMD-12MM - 12mm square, surface-mount  Tactile Button - SMD (12mm) (COM-12993)  Used on SparkFun PicoBoard     SMD-4.5MM - 4.5mm Square Trackball Switch  Used on SparkFun Blackberry Trackballer Breakout     SMD-4.6MMX2.8MM -  4.60mm x 2.80mm, surface mount  Used on SparkFun SAMD21 Mini Breakout     SMD-5.2MM, SMD-5.2-REDUNDANT - 5.2mm square, surface-mount  Mini Pushbutton Switch - SMD (COM-08720)  Used on Arduino Pro Mini  REDUNDANT package connects both switch circuits together     SMD-6.0X3.5MM - 6.0 x 3.5mm, surface mount  Momentary Reset Switch SMD (COM-08229)     SMD-6.2MM-TALL - 6.2mm square, surface mount  Tactile Button - SMD (6mm)  Used on SparkFun Digital Sandbox     SMD-RIGHT-ANGLE - Right-angle, surface mount  Used on SparkFun Block for Intel® Edison - Arduino
PROD_ID: SWCH-00815; SF_SKU: COM-08229
footprint TACTILE_SWITCH_SMD_6.0X3.5MM
pins: 1, 2

## MOMENTARY-SWITCH-SPST-SMD-6.2MM-TALL
designator S?, comment Momentary Switch (Pushbutton) - SPST    Normally-open (NO) SPST momentary switches (buttons, pushbuttons). Variants  PTH-12MM - 12mm square, through-hole  Momentary Pushbutton Switch - 12mm Square (COM-09190)     PTH-6.0MM, PTH-6.0MM-KIT - 6.0mm square, through-hole  Mini Pushbutton Switch (COM-00097)  KIT package intended for soldering kit's - only one side of pads' copper is exposed.     PTH-RIGHT-ANGLE-KIT - Right-angle, through-hole  Right Angle Tactile Button - Used on SparkFun BigTime Watch Kit     SMD-12MM - 12mm square, surface-mount  Tactile Button - SMD (12mm) (COM-12993)  Used on SparkFun PicoBoard     SMD-4.5MM - 4.5mm Square Trackball Switch  Used on SparkFun Blackberry Trackballer Breakout     SMD-4.6MMX2.8MM -  4.60mm x 2.80mm, surface mount  Used on SparkFun SAMD21 Mini Breakout     SMD-5.2MM, SMD-5.2-REDUNDANT - 5.2mm square, surface-mount  Mini Pushbutton Switch - SMD (COM-08720)  Used on Arduino Pro Mini  REDUNDANT package connects both switch circuits together     SMD-6.0X3.5MM - 6.0 x 3.5mm, surface mount  Momentary Reset Switch SMD (COM-08229)     SMD-6.2MM-TALL - 6.2mm square, surface mount  Tactile Button - SMD (6mm)  Used on SparkFun Digital Sandbox     SMD-RIGHT-ANGLE - Right-angle, surface mount  Used on SparkFun Block for Intel® Edison - Arduino
PROD_ID: SWCH-11966; SF_SKU: COM-12992
footprint TACTILE_SWITCH_SMD_6.2MM_TALL
pins: A2 1, B2 2

## MOMENTARY-SWITCH-SPST-SMD-12MM
designator S?, comment Momentary Switch (Pushbutton) - SPST    Normally-open (NO) SPST momentary switches (buttons, pushbuttons). Variants  PTH-12MM - 12mm square, through-hole  Momentary Pushbutton Switch - 12mm Square (COM-09190)     PTH-6.0MM, PTH-6.0MM-KIT - 6.0mm square, through-hole  Mini Pushbutton Switch (COM-00097)  KIT package intended for soldering kit's - only one side of pads' copper is exposed.     PTH-RIGHT-ANGLE-KIT - Right-angle, through-hole  Right Angle Tactile Button - Used on SparkFun BigTime Watch Kit     SMD-12MM - 12mm square, surface-mount  Tactile Button - SMD (12mm) (COM-12993)  Used on SparkFun PicoBoard     SMD-4.5MM - 4.5mm Square Trackball Switch  Used on SparkFun Blackberry Trackballer Breakout     SMD-4.6MMX2.8MM -  4.60mm x 2.80mm, surface mount  Used on SparkFun SAMD21 Mini Breakout     SMD-5.2MM, SMD-5.2-REDUNDANT - 5.2mm square, surface-mount  Mini Pushbutton Switch - SMD (COM-08720)  Used on Arduino Pro Mini  REDUNDANT package connects both switch circuits together     SMD-6.0X3.5MM - 6.0 x 3.5mm, surface mount  Momentary Reset Switch SMD (COM-08229)     SMD-6.2MM-TALL - 6.2mm square, surface mount  Tactile Button - SMD (6mm)  Used on SparkFun Digital Sandbox     SMD-RIGHT-ANGLE - Right-angle, surface mount  Used on SparkFun Block for Intel® Edison - Arduino
PROD_ID: SWCH-11967; SF_SKU: COM-12993
footprint TACTILE_SWITCH_SMD_12MM
pins: 1, 3 2

## MOMENTARY-SWITCH-SPST-SMD-RIGHT-ANGLE
designator S?, comment Momentary Switch (Pushbutton) - SPST    Normally-open (NO) SPST momentary switches (buttons, pushbuttons). Variants  PTH-12MM - 12mm square, through-hole  Momentary Pushbutton Switch - 12mm Square (COM-09190)     PTH-6.0MM, PTH-6.0MM-KIT - 6.0mm square, through-hole  Mini Pushbutton Switch (COM-00097)  KIT package intended for soldering kit's - only one side of pads' copper is exposed.     PTH-RIGHT-ANGLE-KIT - Right-angle, through-hole  Right Angle Tactile Button - Used on SparkFun BigTime Watch Kit     SMD-12MM - 12mm square, surface-mount  Tactile Button - SMD (12mm) (COM-12993)  Used on SparkFun PicoBoard     SMD-4.5MM - 4.5mm Square Trackball Switch  Used on SparkFun Blackberry Trackballer Breakout     SMD-4.6MMX2.8MM -  4.60mm x 2.80mm, surface mount  Used on SparkFun SAMD21 Mini Breakout     SMD-5.2MM, SMD-5.2-REDUNDANT - 5.2mm square, surface-mount  Mini Pushbutton Switch - SMD (COM-08720)  Used on Arduino Pro Mini  REDUNDANT package connects both switch circuits together     SMD-6.0X3.5MM - 6.0 x 3.5mm, surface mount  Momentary Reset Switch SMD (COM-08229)     SMD-6.2MM-TALL - 6.2mm square, surface mount  Tactile Button - SMD (6mm)  Used on SparkFun Digital Sandbox     SMD-RIGHT-ANGLE - Right-angle, surface mount  Used on SparkFun Block for Intel® Edison - Arduino
PROD_ID: COMP-12265
footprint TACTILE_SWITCH_SMD_RIGHT_ANGLE
pins: 1, 2

## NAV_SWITCH
designator S?, comment Navigation Switch    Three way navigation switch. Commonly used as up/down/select on MP3 players. Schematic element and footprint production proven. SparkFun Products  Surface Mount Navigation Switch (COM-08184)  Used on SparkFun MP3 Trigger
PROD_ID: SWCH-08301; SF_SKU: COM-08184
footprint NAV_SWITCH
pins: 1, 2, C (power), T

## REED_SWITCH-PTH-GLASS
designator S?, comment Reed Switch    A reed switch is a magnetically-actuated switch. When the device is exposed to a magnetic field, the two ferrous materials inside the switch pull together and the switch closes. Variant Overview  PTH-GLASS  Reed Switch (COM-08642) - PTH reed switch w/ glass body (6.0 x 0.9 mm)     PTH-INSULATED  Reed Switch - Insulated (COM-10601) - PTH reed switch w/ insulated body (15.1 x 4.2 mm)
PROD_ID: SWCH-09282; SF_SKU: COM-08642
footprint REED_SWITCH_GLASS
pins: P$1 1, P$2 2

## REED_SWITCH-PTH-INSULATED
designator S?, comment Reed Switch    A reed switch is a magnetically-actuated switch. When the device is exposed to a magnetic field, the two ferrous materials inside the switch pull together and the switch closes. Variant Overview  PTH-GLASS  Reed Switch (COM-08642) - PTH reed switch w/ glass body (6.0 x 0.9 mm)     PTH-INSULATED  Reed Switch - Insulated (COM-10601) - PTH reed switch w/ insulated body (15.1 x 4.2 mm)
PROD_ID: SWCH-10467; SF_SKU: COM-10601
footprint REED_SWITCH_PLASTIC
pins: P$1 1, P$2 2

## SWITCH-3PDT-PTH-STOMP
designator S?, comment 3-Pole, Double-Throw (3PDT) Switch    Three-pole, double-throw stomp switch. Drawn as three separate gates for schematic clarity. SparkFun Products  Used in SparkFun Proto Pedal (PRT-13124)
PROD_ID: SWCH-13197
footprint STOMP_SWITCH_3PDT
part A pins: P$1 O, P$2 P, P$3 S
part B pins: P$4 O, P$5 P, P$6 S
part C pins: P$7 O, P$8 P, P$9 S

## SWITCH-DPDT-PTH-GPI-152-3013
designator S?, comment Double-Pole, Double-Throw (DPDT) Switch    Double-pole, double-throw switches. Variant Overview  PTH-GPI-152-3013  Used on SparkFun Geiger Counter     SMD-AY0202  Surface Mount DPDT Switch (COM-00597)  Used on e.g. LilyPad Arduino USB - ATmega32U4 Board
PROD_ID: SWCH-10554
footprint SWITCH_DPDT_PTH_GPI-152-3013
pins: 10 1, 11 4, 20 3, 21 6, C@1 2, C@2 5

## SWITCH-DPDT-SMD-AYZ0202
designator S?, comment Double-Pole, Double-Throw (DPDT) Switch    Double-pole, double-throw switches. Variant Overview  PTH-GPI-152-3013  Used on SparkFun Geiger Counter     SMD-AY0202  Surface Mount DPDT Switch (COM-00597)  Used on e.g. LilyPad Arduino USB - ATmega32U4 Board
PROD_ID: SWCH-08179; SF_SKU: COM-00597
footprint SWITCH_DPDT_SMD_AYZ0202
pins: 1, 2, 3, 4, 5, 6

## SWITCH-SP3T-SMD
designator S?, comment Single-Pole, Triple-Throw (SP3T) Switch    Single-Pole, Triple-Throw switches SparkFun Products  Prototype Part
PROD_ID: SWCH-10805
footprint SWITCH_SP3T_SMD
pins: 1, 2, 3, 4

## SWITCH-SPDT-PTH-11.6X4.0MM
designator S?, comment Single Pole, Double Throw (SPDT) Switch    Single-pole, double-throw (SPDT) switch. Variant Overview  SMD-AYZ0202  Surface Mount DPDT Switch (COM-00597)  Used on e.g. LilyPad Arduino USB - ATmega32U4 Board    PTH-11.6X4.0MM  SPDT Mini Power Switch (COM-00102)  Used on e.g. SparkFun Simon Says - Through-Hole Soldering Kit (KIT-10547)     PTH-11.6X4.0MM-KIT  KIT version of SPDT Mini Power Switch - Simplifies soldering by removing tStop of switch pins - only one side can be soldered.     PTH-11.6X4.0MM-LOCK  LOCK version of SPDT Mini Power Switch - Offset pins hold switch in place for easier soldering.     SMD-RIGHT-ANGLE  Surface Mount Right Angle Switch (COM-10860)  Used on e.g. SparkFun ESP8266 Thing
PROD_ID: SWCH-08261; SF_SKU: COM-00102
footprint SWITCH_SPDT_PTH_11.6X4.0MM
pins: 1 O, 2 P, 3 S

## SWITCH-SPDT-PTH-11.6X4.0MM-KIT
designator S?, comment Single Pole, Double Throw (SPDT) Switch    Single-pole, double-throw (SPDT) switch. Variant Overview  SMD-AYZ0202  Surface Mount DPDT Switch (COM-00597)  Used on e.g. LilyPad Arduino USB - ATmega32U4 Board    PTH-11.6X4.0MM  SPDT Mini Power Switch (COM-00102)  Used on e.g. SparkFun Simon Says - Through-Hole Soldering Kit (KIT-10547)     PTH-11.6X4.0MM-KIT  KIT version of SPDT Mini Power Switch - Simplifies soldering by removing tStop of switch pins - only one side can be soldered.     PTH-11.6X4.0MM-LOCK  LOCK version of SPDT Mini Power Switch - Offset pins hold switch in place for easier soldering.     SMD-RIGHT-ANGLE  Surface Mount Right Angle Switch (COM-10860)  Used on e.g. SparkFun ESP8266 Thing
PROD_ID: SWCH-08261; SF_SKU: COM-00102
footprint SWITCH_SPDT_PTH_11.6X4.0MM_KIT
pins: 1 O, 2 P, 3 S

## SWITCH-SPDT-PTH-11.6X4.0MM-LOCK
designator S?, comment Single Pole, Double Throw (SPDT) Switch    Single-pole, double-throw (SPDT) switch. Variant Overview  SMD-AYZ0202  Surface Mount DPDT Switch (COM-00597)  Used on e.g. LilyPad Arduino USB - ATmega32U4 Board    PTH-11.6X4.0MM  SPDT Mini Power Switch (COM-00102)  Used on e.g. SparkFun Simon Says - Through-Hole Soldering Kit (KIT-10547)     PTH-11.6X4.0MM-KIT  KIT version of SPDT Mini Power Switch - Simplifies soldering by removing tStop of switch pins - only one side can be soldered.     PTH-11.6X4.0MM-LOCK  LOCK version of SPDT Mini Power Switch - Offset pins hold switch in place for easier soldering.     SMD-RIGHT-ANGLE  Surface Mount Right Angle Switch (COM-10860)  Used on e.g. SparkFun ESP8266 Thing
PROD_ID: SWCH-08261; SF_SKU: COM-00102
footprint SWITCH_SPDT_PTH_11.6X4.0MM_LOCK
pins: 1 O, 2 P, 3 S

## SWITCH-SPDT-SMD-AYZ0202
designator S?, comment Single Pole, Double Throw (SPDT) Switch    Single-pole, double-throw (SPDT) switch. Variant Overview  SMD-AYZ0202  Surface Mount DPDT Switch (COM-00597)  Used on e.g. LilyPad Arduino USB - ATmega32U4 Board    PTH-11.6X4.0MM  SPDT Mini Power Switch (COM-00102)  Used on e.g. SparkFun Simon Says - Through-Hole Soldering Kit (KIT-10547)     PTH-11.6X4.0MM-KIT  KIT version of SPDT Mini Power Switch - Simplifies soldering by removing tStop of switch pins - only one side can be soldered.     PTH-11.6X4.0MM-LOCK  LOCK version of SPDT Mini Power Switch - Offset pins hold switch in place for easier soldering.     SMD-RIGHT-ANGLE  Surface Mount Right Angle Switch (COM-10860)  Used on e.g. SparkFun ESP8266 Thing
PROD_ID: SWCH-08179; SF_ID: COM-00597
footprint SWITCH_DPDT_SMD_AYZ0202
pins: 1 O, 2 P, 3 S

## SWITCH-SPDT-SMD-RIGHT-ANGLE
designator S?, comment Single Pole, Double Throw (SPDT) Switch    Single-pole, double-throw (SPDT) switch. Variant Overview  SMD-AYZ0202  Surface Mount DPDT Switch (COM-00597)  Used on e.g. LilyPad Arduino USB - ATmega32U4 Board    PTH-11.6X4.0MM  SPDT Mini Power Switch (COM-00102)  Used on e.g. SparkFun Simon Says - Through-Hole Soldering Kit (KIT-10547)     PTH-11.6X4.0MM-KIT  KIT version of SPDT Mini Power Switch - Simplifies soldering by removing tStop of switch pins - only one side can be soldered.     PTH-11.6X4.0MM-LOCK  LOCK version of SPDT Mini Power Switch - Offset pins hold switch in place for easier soldering.     SMD-RIGHT-ANGLE  Surface Mount Right Angle Switch (COM-10860)  Used on e.g. SparkFun ESP8266 Thing
PROD_ID: SWCH-10651; SF_SKU: COM-10860
footprint SWITCH_SPST_SMD_A
pins: 1 O, 2 P, 3 S

## SWITCH_ROTARY_1X10-PTH
designator S?, comment 10-Position Rotary Switch    Single pole, 10 position rotary switch able to select up to 10 different states. SparkFun Products  Rotary Switch - 10 Position (COM-13253)  Used on SparkFun Decade Resistance Box
PROD_ID: SWCH-12120; SF_SKU: COM-13253
footprint ROTARY_SWITCH_1X10
pins: 1, 2, 3, 4, 5, 6, 7, 8, 9, 10, COMMON

## SWITCH_ROTARY_1X10-PTH-KIT
designator S?, comment 10-Position Rotary Switch    Single pole, 10 position rotary switch able to select up to 10 different states. SparkFun Products  Rotary Switch - 10 Position (COM-13253)  Used on SparkFun Decade Resistance Box
PROD_ID: SWCH-12120; SF_SKU: COM-13253
footprint ROTARY_SWITCH_1X10_KIT
pins: 1, 2, 3, 4, 5, 6, 7, 8, 9, 10, COMMON

## TRACKBALLMECH
designator S?, comment Trackball - Mechanical    This is a tiny trackball akin to those found on a number of Blackberry models (8100, 8300, 8320, 8800, 8830, etc). Each of the four spindles have a tiny circular magnet on each end. Great when paired with very small SMD Hall effect sensors. SparkFun Products  Blackberry Trackball (COM-09308)  Used on SparkFun Blackberry Trackballer Breakout
PROD_ID: COMP-09237; SF_SKU: COM-09308
footprint TRACKBALL